# Altium footprint library ChargerPowerSchematic2021.PcbLib: 9 footprints
Each footprint in its own frame and in the unit in brackets; x right, y up, seen from the top. Pads: shape width x height; smd on the part's side, far side on the other; paste and mask are expansions set on the pad; w line width, h text height; cw(c..) or ccw(c..) is an arc to the next point about the centre after c.
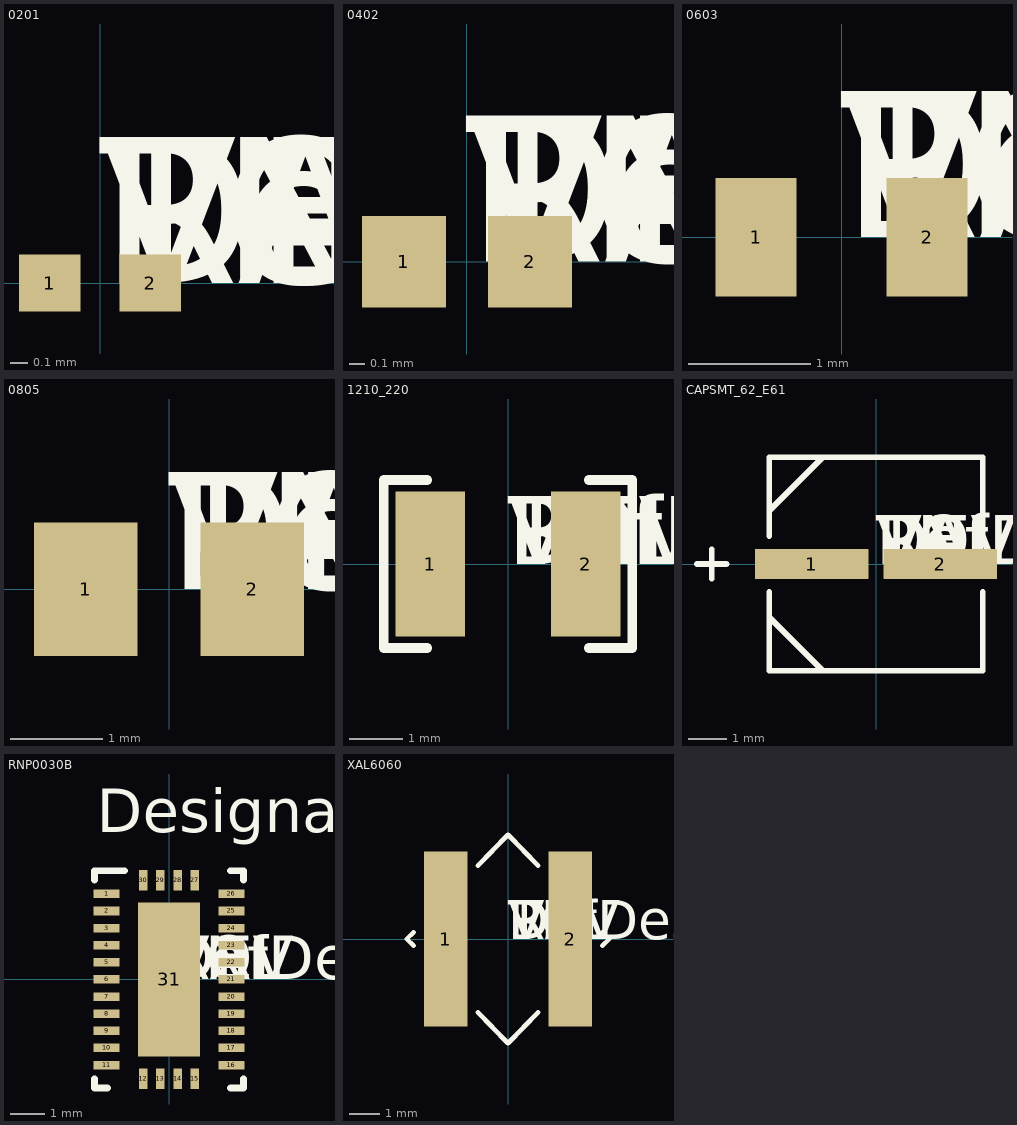
[diagram p0: the footprints below, top view; thin cyan lines are the x and y axes]

## 0201 [mil]
pads (2):
  rect 14x13 smd: 1(-11.5,0) 2(11.5,0)
Top Overlay:
  text "TOL" at 0,0 h50
  text "VAL" at 0,0 h50
  text "DEV" at 0,0 h50
  text "PN" at 0,0 h50
  text "DEV" at 0,0 h50
  text "RefDes" at 0,0 h50
3D body "0201.stp": height 13, standoff 0, extent -12.5,-6.5 12.5,6.5

## 0402 [mil]
pads (2):
  rect 22x24 smd: 1(-16.5,0) 2(16.5,0)
Top Overlay:
  text "RefDes" at 0,0 h50
  text "DEV" at 0,0 h50
  text "PN" at 0,0 h50
  text "DEV" at 0,0 h50
  text "VAL" at 0,0 h50
  text "TOL" at 0,0 h50
3D body "0402.stp": height 22, standoff 0, extent -21.5,-12 21.5,12

## 0603 [mil]
pads (2):
  rect 26x38 smd: 1(-27.5,0) 2(27.5,0)
Top Overlay:
  text "RefDes" at 0,0 h50
  text "DEV" at 0,0 h50
  text "PN" at 0,0 h50
  text "DEV" at 0,0 h50
  text "VAL" at 0,0 h50
  text "TOL" at 0,0 h50
3D body "0603.stp": height 20, standoff 0, extent -34.5,-19 34.5,19

## 0805 [mil]
pads (2):
  rect 44x57 smd: 1(-35.5,0) 2(35.5,0)
Top Overlay:
  text "RefDes" at 0,0 h50
  text "DEV" at 0,0 h50
  text "PN" at 0,0 h50
  text "DEV" at 0,0 h50
  text "VAL" at 0,0 h50
  text "TOL" at 0,0 h50
3D body "0805.stp": height 57, standoff 0, extent -43.5,-28.5 43.5,28.5

## 1210_220 [mm]
pads (2):
  rect 1.3x2.7 smd paste+0 mask+0.051: 1(-1.45,0) 2(1.45,0)
Top Overlay:
  lines w0.178: -1.511,-1.568 -2.316,-1.568 -2.316,1.568 -1.511,1.568 ; 1.511,-1.568 2.316,-1.568 2.316,1.568 1.511,1.568
  text "RefDes" at 0,0 h1.27
  text "DEV" at 0,0 h1.27
  text "PN" at 0,0 h1.27
  text "DEV" at 0,0 h1.27
  text "VAL" at 0,0 h1.27
  text "TOL" at 0,0 h1.27
3D body: height 0.25, standoff 0, extent 0,0 0.254,0.254

## CAPSMT_62_E61 [mil]
pads (2):
  rect 115.5x31 smd: 1(-65.25,0) 2(65.25,0)
Top Overlay:
  lines w6: -182,0 -152,0 ; -167,-15 -167,15 ; -108.5,-54.25 -54.25,-108.5 ; -108.5,-28.6 -108.5,-108.5 108.5,-108.5 108.5,-28.6 ; -108.5,28.6 -108.5,108.5 108.5,108.5 108.5,28.6 ; -108.5,54.25 -54.25,108.5
  text "RefDes" at 0,0 h50
  text "DEV" at 0,0 h50
  text "PN" at 0,0 h50
  text "DEV" at 0,0 h50
  text "VAL" at 0,0 h50
  text "TOL" at 0,0 h50
3D body "CAPSMT_62_E61.stp": height 242, standoff 0, extent -120,-108.5 120,108.5

## PCBComponent_1 [mm]

## RNP0030B [mm]
pads (31):
  rect 0.75x0.25 smd paste+0 mask+0.051: 1(-1.825,2.5) 2(-1.825,2) 3(-1.825,1.5) 4(-1.825,1) 5(-1.825,0.5) 6(-1.825,0) 7(-1.825,-0.5) 8(-1.825,-1) 9(-1.825,-1.5) 10(-1.825,-2) 11(-1.825,-2.5) 16(1.825,-2.5) 17(1.825,-2) 18(1.825,-1.5) 19(1.825,-1) 20(1.825,-0.5) 21(1.825,0) 22(1.825,0.5) 23(1.825,1) 24(1.825,1.5) 25(1.825,2) 26(1.825,2.5)
  rect 0.25x0.6 smd paste+0 mask+0.051: 12(-0.75,-2.9) 13(-0.25,-2.9) 14(0.25,-2.9) 15(0.75,-2.9) 27(0.75,2.9) 28(0.25,2.9) 29(-0.25,2.9) 30(-0.75,2.9)
  rect 1.8x4.5 smd paste-2.237 mask+0.051: 31(0,0)
Top Overlay:
  lines w0.2: -2.175,-2.9 -2.175,-3.175 -1.8,-3.175 ; -2.175,2.9 -2.175,3.175 -1.3,3.175 ; 1.8,-3.175 2.175,-3.175 2.175,-2.9 ; 1.8,3.175 2.175,3.175 2.175,2.9
  text "Designator9" at -2.108,4.293 h1.27
  text "RefDes" at 0,0 h1.27
  text "DEV" at 0,0 h1.27
  text "PN" at 0,0 h1.27
  text "DEV" at 0,0 h1.27
  text "VAL" at 0,0 h1.27
  text "TOL" at 0,0 h1.27
Top Paste:
  drawing of 8 lines, arcs and shapes, not listed
3D body: height 0.25, standoff 0, extent 0,0 0.254,0.254

## XAL6060 [mil]
pads (2):
  rect 56x224 smd: 1(-79.5,0) 2(79.5,0)
Top Overlay:
  lines w6: -120.6,-8.66 -129,0 -120.6,8.66 ; -38.4,-93.41 0,-133 38.4,-93.41 ; -38.4,93.41 0,133 38.4,93.41 ; 120.6,-8.66 129,0 120.6,8.66
  text "RefDes" at 0,0 h50
  text "DEV" at 0,0 h50
  text "PN" at 0,0 h50
  text "DEV" at 0,0 h50
  text "VAL" at 0,0 h50
  text "TOL" at 0,0 h50
3D body "XAL6060.stp": height 252, standoff 0, extent -141,-133 141,133